# EAGLE library part MAINBOARD_4PLE (library isysbus_modulsystem)
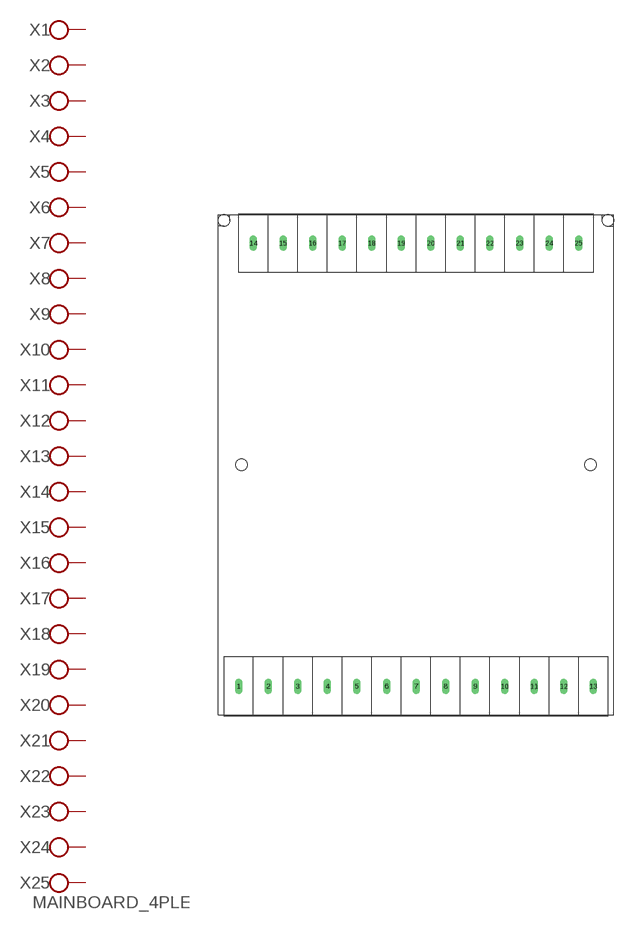
[diagram p3: symbol with the pads of HUT_4PLE_UNTEN; footprint HUT_4PLE_UNTEN]

Designator prefix X; gates 1=KL 2=KL 3=KL 4=KL 5=KL 6=KL 7=KL 8=KL 9=KL 10=KL 11=KL 12=KL 13=KL 14=KL 15=KL 16=KL 17=KL 18=KL 19=KL 20=KL 21=KL 22=KL 23=KL 24=KL 25=KL+V

## MAINBOARD_4PLE  [HUT_4PLE_UNTEN]
1  1:KL  pas
2  2:KL  pas
3  3:KL  pas
4  4:KL  pas
5  5:KL  pas
6  6:KL  pas
7  7:KL  pas
8  8:KL  pas
9  9:KL  pas
10  10:KL  pas
11  11:KL  pas
12  12:KL  pas
13  13:KL  pas
14  14:KL  pas
15  15:KL  pas
16  16:KL  pas
17  17:KL  pas
18  18:KL  pas
19  19:KL  pas
20  20:KL  pas
21  21:KL  pas
22  22:KL  pas
23  23:KL  pas
24  24:KL  pas
25  25:KL  pas

## Footprint HUT_4PLE_UNTEN (pad centres in mm)
drill 0.8 long: 1 -30.48,-38.1; 2 -25.4,-38.1; 3 -20.32,-38.1; 4 -15.24,-38.1; 5 -10.16,-38.1; 6 -5.08,-38.1; 7 0,-38.1; 8 5.08,-38.1; 9 10.16,-38.1; 10 15.24,-38.1; 11 20.32,-38.1; 12 25.4,-38.1; 13 30.48,-38.1; 14 -27.94,38.1; 15 -22.86,38.1; 16 -17.78,38.1; 17 -12.7,38.1; 18 -7.62,38.1; 19 -2.54,38.1; 20 2.54,38.1; 21 7.62,38.1; 22 12.7,38.1; 23 17.78,38.1; 24 22.86,38.1; 25 27.94,38.1
hole 2 at -30,0
hole 2 at 30,0